# Altium schematic symbol library IC_OPAMP_SINGLE_1.SchLib: 1 symbol
Pins are listed as number, name and electrical type; pins without a type are passive.

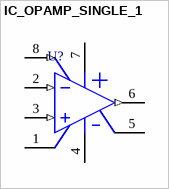
[diagram p0: symbol IC_OPAMP_SINGLE_1]

## IC_OPAMP_SINGLE_1
designator U?
pins: 1 NC, 2 VIN- (in), 3 VIN+ (in), 4 VSS (power), 5 VREF (power), 6 VOUT (out), 7 VDD (power), 8 ~{CS} (in)